# Altium integrated library 640445-3.IntLib: 1 symbol
Pins are listed as number, name and electrical type; pins without a type are passive.

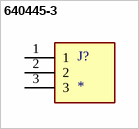
[diagram p0: symbol 640445-3]

## 640445-3
designator J?
Connector MTA-156 Male 3 Copper Alloy 7 600 0.156 in. Polyester White | TE Connectivity 640445-3; SnapEDA_Link: https://www.snapeda.com/parts/640445-3/TE+Connectivity+AMP+Connectors/view-part/?ref=snap; Package: None; Value: *; MF: TE Connectivity; MP: 640445-3; EU_RoHS_Compliance: Compliant; Check_prices: https://www.snapeda.com/parts/640445-3/TE+Connectivity+AMP+Connectors/view-part/?ref=eda
footprint TE_640445-3
pins: 1, 2, 3